# EAGLE library part DIST_SENS_OUTPUTPINS (library dist_sens_output_pins_v3)
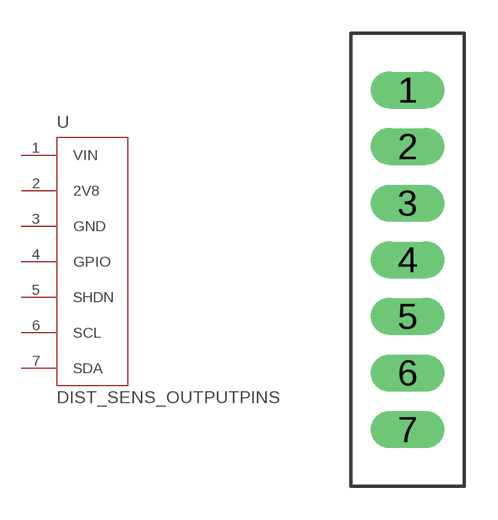
[diagram p0: symbol with the pads of DISTANCE_SENS_OUT; footprint DISTANCE_SENS_OUT]

Designator prefix -

## DIST_SENS_OUTPUTPINS  [DISTANCE_SENS_OUT]
1  VIN  pwr
2  2V8  pwr
3  GND  pwr
4  GPIO
5  SHDN
6  SCL
7  SDA

## Footprint DISTANCE_SENS_OUT (pad centres in mm)
drill 1.016 pad 1.651 long: 1 0,7.62; 2 0,5.08; 3 0,2.54; 4 0,0; 5 0,-2.54; 6 0,-5.08; 7 0,-7.62